# Altium schematic symbol library 1.69_SPI_screen.SCHLIB: 7 symbols
Pins are listed as number, name and electrical type; pins without a type are passive.

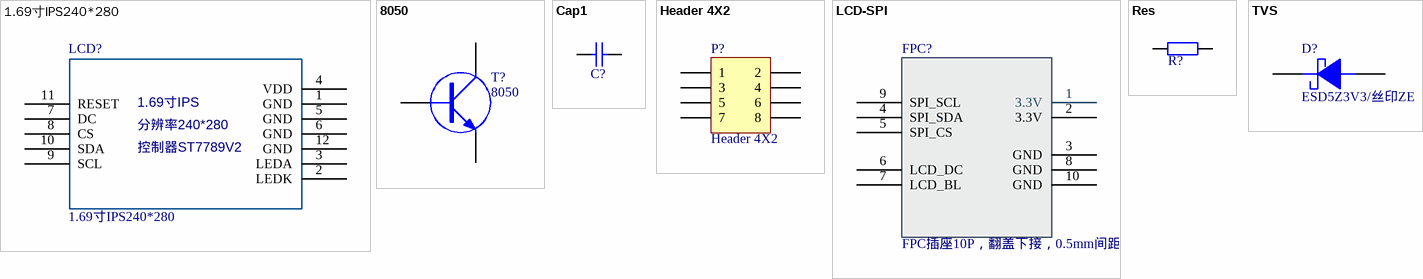
[diagram p0: symbols 1.69寸IPS240*280 to TVS]

## 1.69寸IPS240*280
designator LCD?
footprint 1.69寸IPS240*280
pins: 1 GND, 2 LEDK, 3 LEDA, 4 VDD, 5 GND, 6 GND, 7 DC, 8 CS, 9 SCL, 10 SDA, 11 RESET, 12 GND
text: 1.69寸IPS; 分辨率240*280; 控制器ST7789V2

## 8050
designator T?
footprint SO-G3/C2.25 (SOT-23; 3 Leads; Body 3.0 x 2.5 mm, inc. leads (LxW max))
pins: 1 E, 2 B, 3 C

## Cap1
designator C?, comment 1uf  (value not drawn)
footprint 0402-CAP (Chip Capacitor, 2-Leads, Body 1.00x0.50mm, IPC Medium Density)
pins: 1, 2

## Header 4X2
designator P?
Header, 4-Pin, Dual row
footprint HDR2X4 (Connector; Header; 4x2 Position)
pins: 1, 2, 3, 4, 5, 6, 7, 8

## LCD-SPI
designator FPC?, comment FPC插座10P，翻盖下接，0.5mm间距
footprint FPC10P-0.5MM
pins: 1 3.3V, 2 3.3V, 3 GND, 4 SPI_SDA, 5 SPI_CS, 6 LCD_DC, 7 LCD_BL, 8 GND, 9 SPI_SCL, 10 GND

## Res
designator R?, comment 1k  (value not drawn)
footprint 0402-RES (Chip Resistor, 2-Leads, Body 1.00x0.50mm, IPC Medium Density)
pins: 1, 2

## TVS
designator D?, comment ESD5Z3V3/丝印ZE
footprint SOD523
pins: 1 +, 2 -